# EAGLE library part PIC16F15323T-I_SL (library PIC16F15323T-I_SL)
8-bit Microcontrollers - MCU 3.5KB, 256B RAM, 4xPWMs, Comparator, DAC, ADC, 4xCLC, CWG, EUSART, SPI/I2C Source: Datasheet <http://ww1.microchip.com/downloads/en/DeviceDoc/40001897A.pdf>
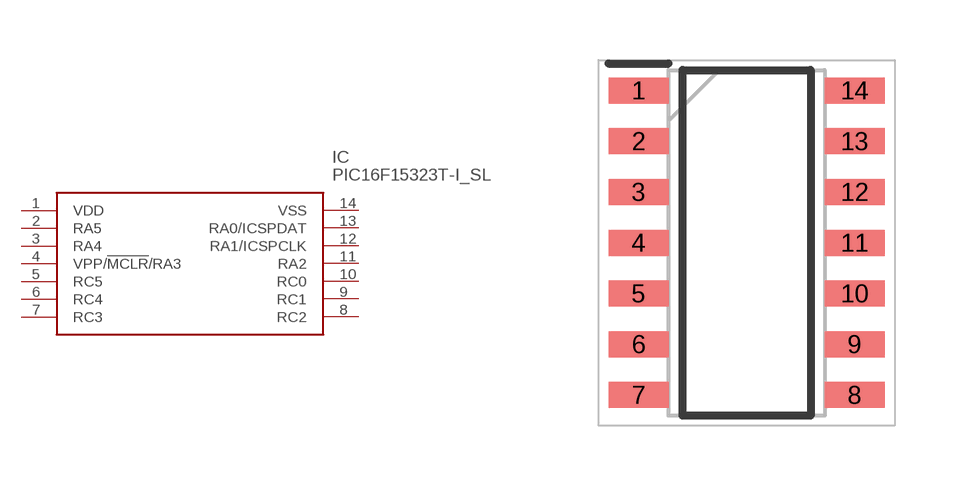
[diagram p0: symbol with the pads of SOIC127P600X175-14N; footprint SOIC127P600X175-14N]

Designator prefix IC

## PIC16F15323T-I_SL (Description: 8-bit Microcontrollers - MCU 3.5KB, 256B RAM, 4xPWMs, Comparator, DAC, ADC, 4xCLC, CWG, EUSART, SPI/I2C; Height: 1.75mm; Manufacturer_Name: Microchip; Manufacturer_Part_Number: PIC16F15323T-I/SL)  [SOIC127P600X175-14N]
1  VDD
2  RA5
3  RA4
4  VPP/!MCLR!/RA3
5  RC5
6  RC4
7  RC3
8  RC2
9  RC1
10  RC0
11  RA2
12  RA1/ICSPCLK
13  RA0/ICSPDAT
14  VSS

## Footprint SOIC127P600X175-14N (pad centres in mm)
PIC16F15323T-I/SL
smd 1.5 x 0.65: 1 -2.7,3.81; 2 -2.7,2.54; 3 -2.7,1.27; 4 -2.7,0; 5 -2.7,-1.27; 6 -2.7,-2.54; 7 -2.7,-3.81; 8 2.7,-3.81; 9 2.7,-2.54; 10 2.7,-1.27; 11 2.7,0; 12 2.7,1.27; 13 2.7,2.54; 14 2.7,3.81